# EAGLE library part SMD-8PIN-25MIL (library alvie)
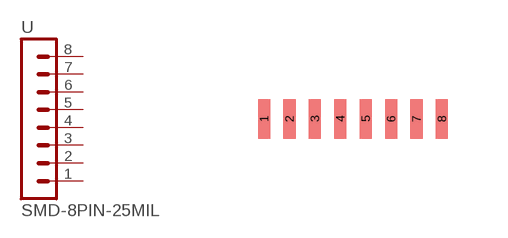
[diagram p38: symbol with the pads of SMD-8PIN-25MIL; footprint SMD-8PIN-25MIL]

Designator prefix -

## SMD-8PIN-25MIL  [SMD-8PIN-25MIL]
1  1  pas
2  2  pas
3  3  pas
4  4  pas
5  5  pas
6  6  pas
7  7  pas
8  8  pas

## Footprint SMD-8PIN-25MIL (pad centres in mm)
smd 0.305 x 0.991: 1 0,0; 2 0.635,0; 3 1.27,0; 4 1.905,0; 5 2.54,0; 6 3.175,0; 7 3.81,0; 8 4.445,0